# Altium footprint library esp8266.PcbLib: 17 footprints (part 1 of 2)
Each footprint in its own frame and in the unit in brackets; x right, y up, seen from the top. Pads: shape width x height; smd on the part's side, far side on the other; paste and mask are expansions set on the pad; w line width, h text height; cw(c..) or ccw(c..) is an arc to the next point about the centre after c.
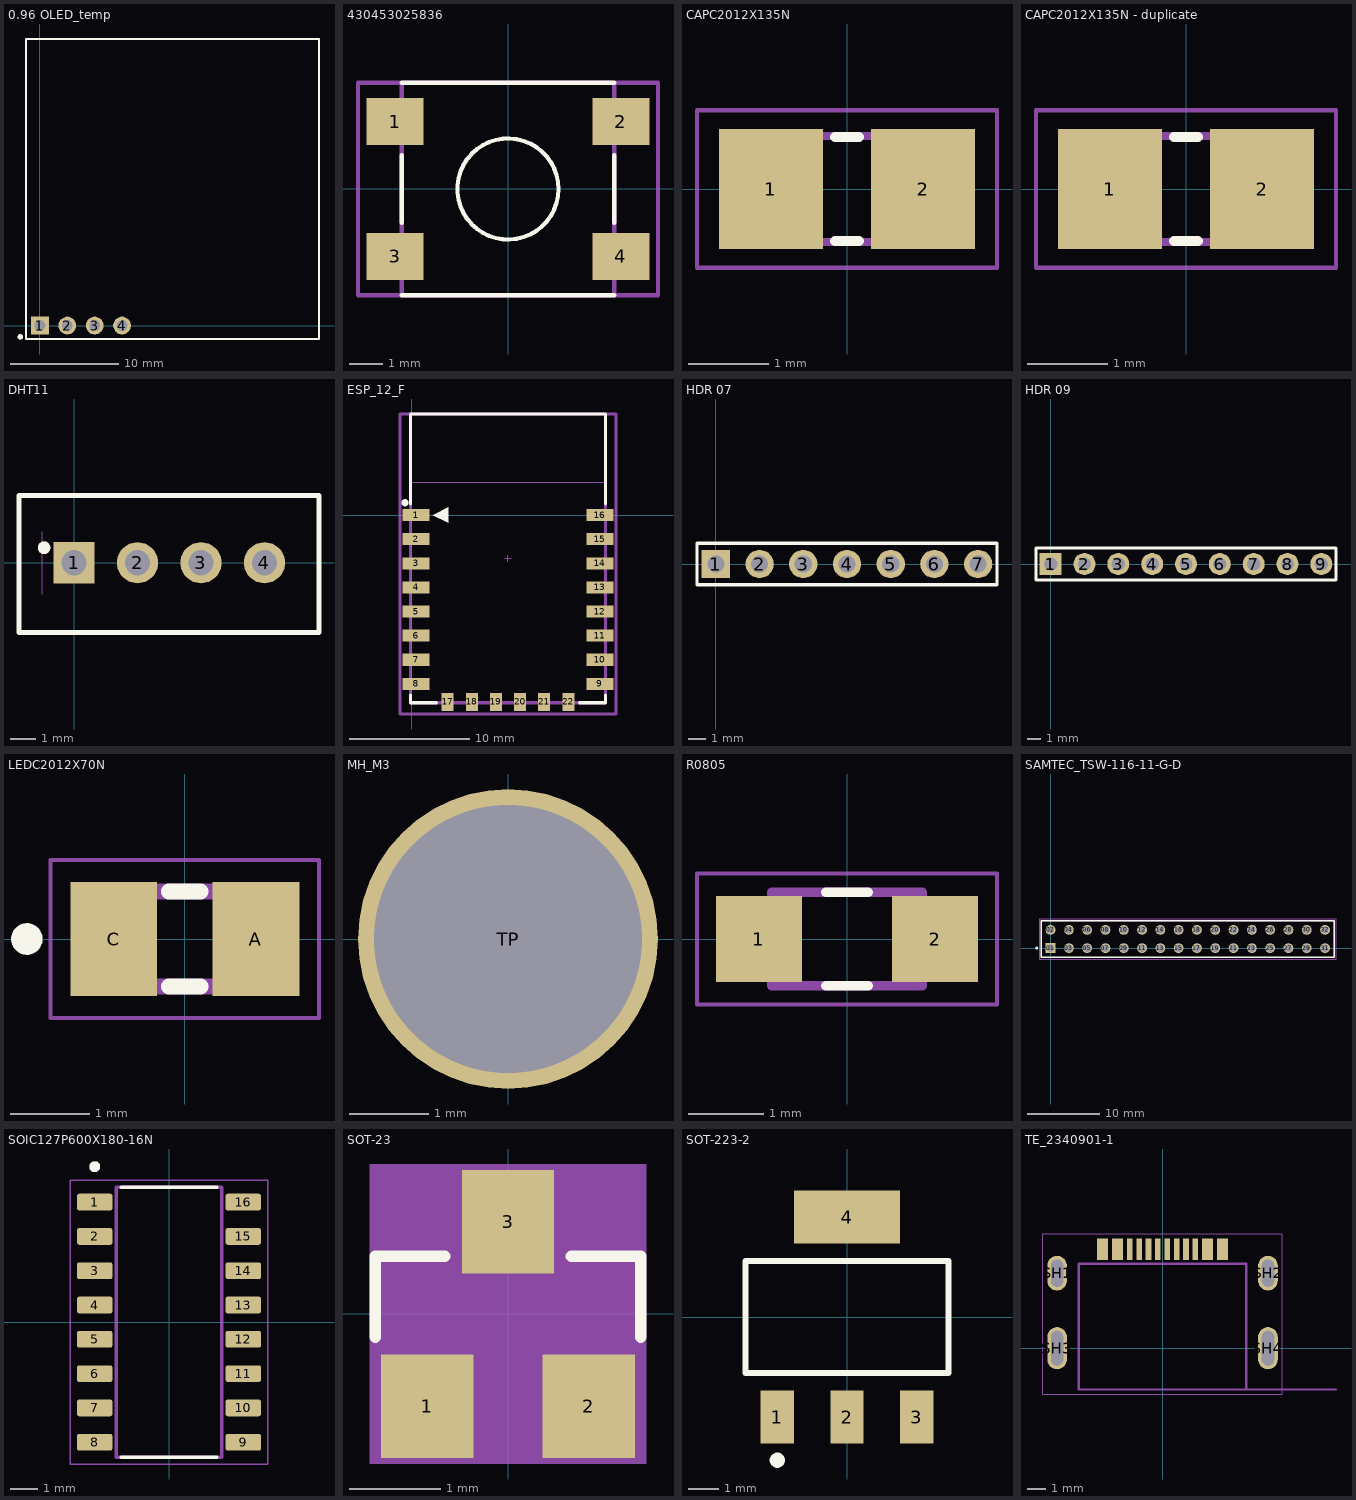
[diagram p0: the footprints below, top view; thin cyan lines are the x and y axes]

## 0.96 OLED_temp [mm] "Some virtual OLED module"
height 2.54
pads (4):
  rect 1.65x1.65 hole 1 mask+0: 1(0,0)
  round 1.65 hole 1 mask+0: 2(2.54,0) 3(5.08,0) 4(7.62,0)
Top Overlay:
  circle w0.25: c-1.82,-1.05 r0.125
  lines w0.2: -1.3,26.55 -1.3,-1.25 25.9,-1.25 25.9,26.55 ; -1.3,26.6 25.9,26.6
Mechanical 12:
  lines w0.001: -1.27,-1.25 -1.27,1.25
Mechanical 13:
  circle w0.25: c-1.82,-1.05 r0.125
  text ".Designator" at -1.3,-3 h1.52
Mechanical 15:
  lines w0.05: -0.47,-0.025 0.53,-0.025 ; 0.03,-0.525 0.03,0.475

## 430453025836 [mm] "6*6mm washable vertical type, J-Bend SMD, height 2.5mm, salmon actuator, 360gf, T&R"
height 2.5
pads (4):
  rect 1.7x1.4 smd: 1(-3.35,2) 2(3.35,2) 3(-3.35,-2) 4(3.35,-2)
Top Overlay:
  circle w0.127: c0,0 r1.5
  lines w0.127: -3.15,-3.15 3.15,-3.15 ; -3.15,-1 -3.15,1 ; -3.15,3.15 1.3,3.15 3.15,3.15 ; 3.15,-1 3.15,1
Mechanical 13:
  lines w0.127: -3.15,-3.15 3.15,-3.15 3.15,3.15 -3.15,3.15 -3.15,-3.15
Mechanical 15:
  lines w0.127: -4.45,-3.15 -4.45,3.15 4.45,3.15 4.45,-3.15 -4.45,-3.15
3D body "4304x30258x6.stp": height 2.5, standoff -0.01, extent -3.6,-3.1 3.6,3.1

## CAPC2012X135N [mm]
pads (2):
  rect 1.3x1.5 smd: 1(-0.95,0) 2(0.95,0)
Top Overlay:
  lines w0.127: -0.15,-0.65 0.15,-0.65 ; -0.15,0.65 0.15,0.65
Mechanical 13:
  region: -0.342,-0.724 -1.092,-0.724 -1.092,0.726 -0.342,0.726
  region: 1.106,-0.724 0.356,-0.724 0.356,0.726 1.106,0.726
  lines w0.102: -0.381,0.66 0.381,0.66 ; -0.356,-0.66 0.381,-0.66
Mechanical 15:
  lines w0.051: -1.873,-0.983 1.873,-0.983 1.873,0.983 -1.873,0.983 -1.873,-0.983
3D body "step_temp.STEP": height 0.72, standoff -0.72, extent -1,-0.625 1,0.625

## CAPC2012X135N - duplicate [mm]
pads (2):
  rect 1.3x1.5 smd: 1(-0.95,0) 2(0.95,0)
Top Overlay:
  lines w0.127: -0.15,-0.65 0.15,-0.65 ; -0.15,0.65 0.15,0.65
Mechanical 13:
  region: -0.342,-0.724 -1.092,-0.724 -1.092,0.726 -0.342,0.726
  region: 1.106,-0.724 0.356,-0.724 0.356,0.726 1.106,0.726
  lines w0.102: -0.381,0.66 0.381,0.66 ; -0.356,-0.66 0.381,-0.66
Mechanical 15:
  lines w0.051: -1.873,-0.983 1.873,-0.983 1.873,0.983 -1.873,0.983 -1.873,-0.983

## DHT11 [mm] "Temp and humidity module"
height 15.5
pads (4):
  rect 1.65x1.65 hole 1 mask+0: 1(0,0)
  round 1.65 hole 1 mask+0: 2(2.54,0) 3(5.08,0) 4(7.62,0)
Top Overlay:
  circle w0.25: c-1.2,0.6 r0.125
  lines w0.2: -2.2,-2.8 -2.2,2.7 9.8,2.7 9.8,-2.8 -2.2,-2.8
Mechanical 12:
  lines w0.001: -1.27,-1.25 -1.27,1.25
Mechanical 13:
  circle w0.25: c-1.2,0.6 r0.125
  text ".Designator" at -1.6,3.5 h1.52
Mechanical 15:
  lines w0.05: -0.47,-0.025 0.53,-0.025 ; 0.03,-0.525 0.03,0.475

## ESP_12_F [mm] "ESP-12 Wi-Fi Module by AI-Thinker"
height 3.2
pads (22):
  rect 2.25x1 smd: 1(0.375,0) 2(0.375,-2) 3(0.375,-4) 4(0.375,-6) 5(0.375,-8) 6(0.375,-10) 7(0.375,-12) 8(0.375,-14) 9(15.625,-14) 10(15.625,-12) 11(15.625,-10) 12(15.625,-8) 13(15.625,-6) 14(15.625,-4) 15(15.625,-2) 16(15.625,0)
  rect 1x1.5 smd: 17(3,-15.5) 18(5,-15.5) 19(7,-15.5) 20(9,-15.5) 21(11,-15.5) 22(13,-15.5)
Top Overlay:
  circle w0.3: c-0.55,1.025 r0.15
  region: 1.77,0 3.04,-0.635 3.04,0.635
  lines w0.254: -0.084,-14.916 -0.084,-15.568 2.068,-15.568 ; -0.084,0.916 -0.084,8.371 16.084,8.371 16.084,0.916 ; 13.932,-15.568 16.084,-15.568 16.084,-14.916
Mechanical 13:
  lines w0.051: -0.127,2.727 -0.127,8.382 16.129,8.382 16.129,2.727 -0.127,2.727
  lines w0.254: -0.084,-15.568 16.084,-15.568 16.084,8.371 -0.084,8.371 -0.084,-15.568
  text "CUTOUT POLYGON" at 0.127,7.366 h0.25
  text "ANTENNA AREA" at 0.127,7.874 h0.25
Mechanical 15:
  lines w0.1: 7.746,-3.598 8.254,-3.598 ; 8,-3.852 8,-3.344
  lines w0.254: -0.975,-16.5 -0.975,8.371 16.975,8.371 16.975,-16.5 -0.975,-16.5
3D body "ESP_12_E.STEP": height 2.75, standoff 0.04, extent 0.001,-15.491 16.001,8.509

## HDR 07 [mm]
pads (7):
  rect 1.65x1.65 hole 1: 1(0,0)
  round 1.65 hole 1: 2(2.54,0) 3(5.08,0) 4(7.62,0) 5(10.16,0) 6(12.7,0) 7(15.24,0)
Top Overlay:
  lines w0.2: -1.1,-1.2 -1.1,1.2 16.34,1.2 16.34,-1.2 -1.1,-1.2

## HDR 09 [mm]
pads (9):
  rect 1.65x1.65 hole 1: 1(0,0)
  round 1.65 hole 1: 2(2.54,0) 3(5.08,0) 4(7.62,0) 5(10.16,0) 6(12.7,0) 7(15.24,0) 8(17.78,0) 9(20.32,0)
Top Overlay:
  lines w0.2: -1.1,-1.2 -1.1,1.2 21.42,1.2 21.42,-1.2 -1.1,-1.2

## LEDC2012X70N [mm]
pads (2):
  rect 1.1x1.45 smd: A(0.9,0) C(-0.9,0)
Top Overlay:
  circle w0.2: c-2,0 r0.1
  lines w0.2: -0.2,-0.6 0.2,-0.6 ; -0.2,0.6 0.2,0.6
Mechanical 13:
  region: -0.5,-0.6 -1,-0.6 -1,0.6 -0.5,0.6
  region: 1,-0.6 0.5,-0.6 0.5,0.6 1,0.6
  lines w0.2: -1,-0.6 1,-0.6 1,0.6 -1,0.6 -1,-0.6
Mechanical 15:
  lines w0.05: -1.7,-1 1.7,-1 1.7,1 -1.7,1 -1.7,-1
3D body "step_temp.STEP": height 0.7, standoff 0, extent -1,-0.625 1,0.625

## MH_M3 [mm] "Mounting hole for M3 screw"
pads (1):
  round 3.8 hole 3.4 unplated: TP(0,0)

## R0805 [mm]
pads (2):
  rect 1.15x1.15 smd: 1(-1.175,0) 2(1.175,0)
Top Overlay:
  lines w0.127: -0.28,-0.625 0.28,-0.625 ; -0.28,0.625 0.28,0.625
Mechanical 13:
  lines w0.127: -1,-0.625 1,-0.625 1,0.625 -1,0.625 -1,-0.625
Mechanical 15:
  lines w0.05: -2,-0.875 2,-0.875 2,0.875 -2,0.875 -2,-0.875

## SAMTEC_TSW-116-11-G-D [mm]
pads (32):
  rect 1.37x1.37 hole 1.02: 01(0,0)
  round 1.37 hole 1.02: 02(0,2.54) 03(2.54,0) 04(2.54,2.54) 05(5.08,0) 06(5.08,2.54) 07(7.62,0) 08(7.62,2.54) 09(10.16,0) 10(10.16,2.54) 11(12.7,0) 12(12.7,2.54) 13(15.24,0) 14(15.24,2.54) 15(17.78,0) 16(17.78,2.54) 17(20.32,0) 18(20.32,2.54) 19(22.86,0) 20(22.86,2.54) 21(25.4,0) 22(25.4,2.54) 23(27.94,0) 24(27.94,2.54) 25(30.48,0) 26(30.48,2.54) 27(33.02,0) 28(33.02,2.54) 29(35.56,0) 30(35.56,2.54) 31(38.1,0) 32(38.1,2.54)
Top Overlay:
  circle w0.2: c-1.92,0 r0.1
  lines w0.2: -1.27,-1.27 39.37,-1.27 39.37,3.81 -1.27,3.81 -1.27,-1.27
Mechanical 13:
  circle w0.2: c-1.92,0 r0.1
  lines w0.1: -1.27,-1.27 39.37,-1.27 39.37,3.81 -1.27,3.81 -1.27,-1.27
Mechanical 15:
  lines w0.05: -1.52,-1.52 39.62,-1.52 39.62,4.06 -1.52,4.06 -1.52,-1.52

## SOIC127P600X180-16N [mm]
height 1.8
pads (16):
  rrect25% 1.31x0.62 smd: 1(-2.75,4.445) 2(-2.75,3.175) 3(-2.75,1.905) 4(-2.75,0.635) 5(-2.75,-0.635) 6(-2.75,-1.905) 7(-2.75,-3.175) 8(-2.75,-4.445) 9(2.75,-4.445) 10(2.75,-3.175) 11(2.75,-1.905) 12(2.75,-0.635) 13(2.75,0.635) 14(2.75,1.905) 15(2.75,3.175) 16(2.75,4.445)
Top Overlay:
  circle w0.2: c-2.75,5.755 r0.1
  lines w0.127: -1.775,-5 1.775,-5 -1.775,-5 ; -1.775,5 1.775,5 -1.775,5
Mechanical 13:
  circle w0.2: c-2.75,5.755 r0.1
  lines w0.127: -1.95,-5 1.95,-5 1.95,5 -1.95,5 -1.95,-5
Mechanical 15:
  lines w0.05: -3.655,-5.25 -3.655,5.25 3.655,5.25 3.655,-5.25 -3.655,-5.25
3D body "step_temp.STEP": height 1.8, standoff 0, extent -3,-5 3,5

## SOT-23 [mil]
pads (3):
  rect 40x45 smd: 1(-35,-40) 2(35,-40) 3(0,40)
Top Overlay:
  lines w5: -57.5,-10 -57.5,25 -27.5,25 ; 27.5,25 57.5,25 57.5,-10
Mechanical 13:
  region: -28,-51 -46,-51 -46,-28 -28,-28
  region: 46,-51.01 28.01,-51.01 28.01,-28 46,-28
  region: 9,28 -9,28 -9,51 9,51
Mechanical 15:
  region: 60,-65.06 -60.06,-65.06 -60.06,65 60,65
3D body "step_temp.STEP": height 55.12, standoff 0, extent -57.09,-51.18 57.09,51.18

## SOT-223-2 [mm] "SOT-223/SC-73; 4 Leads; Body 6.7 x 7.3 mm, inc. leads (LxW max)"
height 1.75
pads (4):
  rect 1.1x1.75 smd: 1(-2.3,-3.3) 2(0,-3.3) 3(2.3,-3.3)
  rect 3.5x1.75 smd: 4(0,3.3)
Top Overlay:
  circle w0.25: c-2.3,-4.725 r0.125
  lines w0.2: -3.35,-1.85 -3.35,1.85 3.35,1.85 3.35,-1.85 -3.35,-1.85
3D body "SOT-223-2.STEP": height 1.85, standoff -0.05, extent -3.35,-3.704 3.35,3.5

## TE_2340901-1 [mm]
height 1.58
pads (16):
  rect 0.6x1.15 smd: A1/B12(-3.2,5.275) A4/B9(-2.4,5.275) B1/A12(3.2,5.275) B4/AP(2.4,5.275)
  rect 0.3x1.15 smd: A5(-1.25,5.275) A6(-0.25,5.275) A7(0.25,5.275) A8(1.25,5.275) B5(1.75,5.275) B6(0.75,5.275) B7(-0.75,5.275) B8(-1.75,5.275)
  oval 1.05x1.85 hole 0.65 slot 1.45 at 90 deg: SH1(-5.62,4) SH2(5.62,4)
  oval 1.05x2.25 hole 0.65 slot 1.85 at 90 deg: SH3(-5.62,0) SH4(5.62,0)
Mechanical 13:
  lines w0.127: 9.25,-2.2 4.47,-2.2 ; 4.47,-2.2 -4.47,-2.2 -4.47,4.5 4.47,4.5 4.47,-2.2
  text "PCB EDGE" at 6.5,-2 h1.02
Mechanical 15:
  lines w0.05: -6.395,-2.45 -6.395,6.1 6.395,6.1 6.395,-2.45 -6.395,-2.45